# Altium footprint library MiniSquidCtrl.PcbLib: 44 footprints (part 2 of 3)
Each footprint in its own frame and in the unit in brackets; x right, y up, seen from the top. Pads: shape width x height; smd on the part's side, far side on the other; paste and mask are expansions set on the pad; w line width, h text height; cw(c..) or ccw(c..) is an arc to the next point about the centre after c.
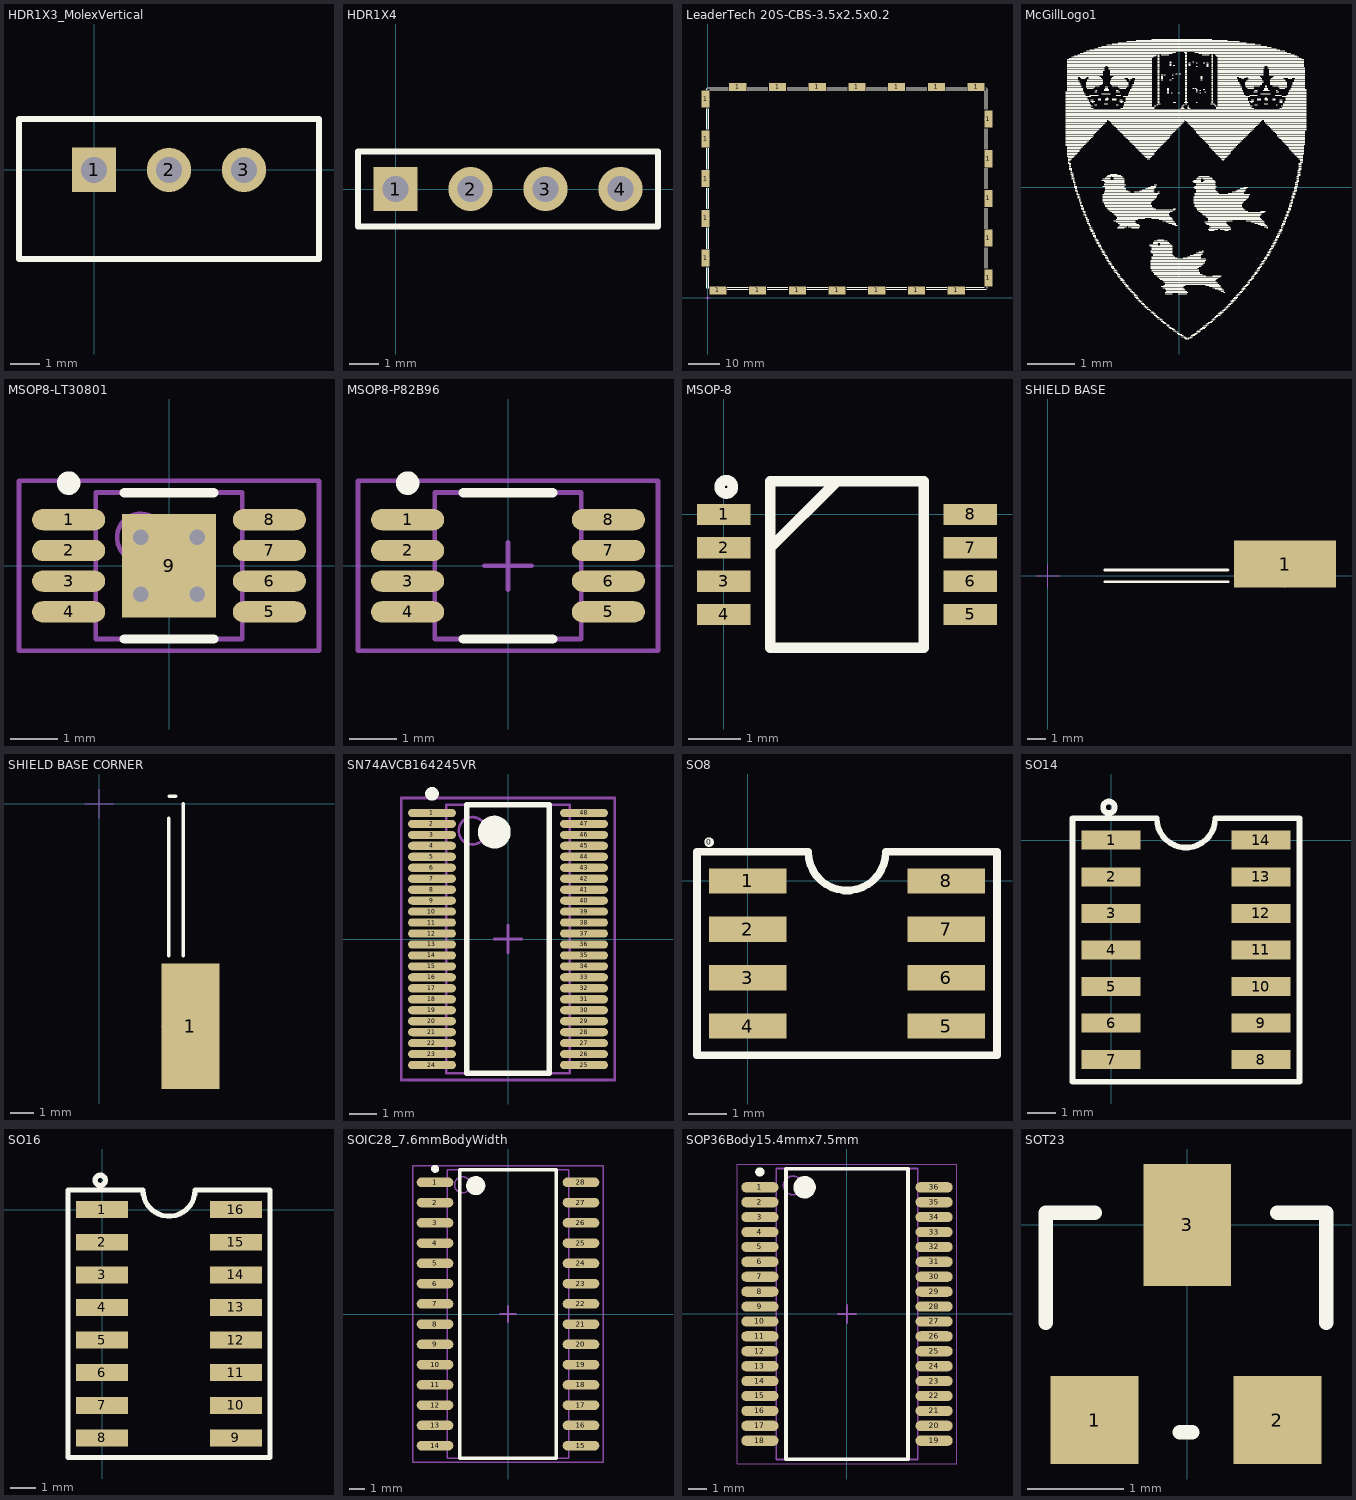
[diagram p1: the footprints below, top view; thin cyan lines are the x and y axes]

## HDR1X3_MolexVertical [mm] "WM2889"
pads (3):
  rect 1.5x1.5 hole 0.889: 1(0,0)
  round 1.5 hole 0.889: 2(2.54,0) 3(5.08,0)
Top Overlay:
  lines w0.2: -2.54,-3.023 -2.54,1.727 7.62,1.727 7.62,-3.023 -2.54,-3.023

## HDR1X4 [mm]
pads (4):
  rect 1.5x1.5 hole 0.889: 1(0,0)
  round 1.5 hole 0.889: 2(2.54,0) 3(5.08,0) 4(7.62,0)
Top Overlay:
  lines w0.2: -1.27,-1.27 8.89,-1.27 8.89,1.27 -1.27,1.27 -1.27,-1.27

## LeaderTech 20S-CBS-3.5x2.5x0.2 [mil]
pads (24):
  rect 100x215 smd: 1(-25,500) 1(-25,1000) 1(-25,1500) 1(-25,2000) 1(-25,2500) 1(3537,250) 1(3537,750) 1(3537,1250) 1(3537,1750) 1(3537,2250)
  rect 215x100 smd: 1(131,94) 1(381,2656) 1(631,94) 1(881,2656) 1(1131,94) 1(1381,2656) 1(1631,94) 1(1881,2656) 1(2131,94) 1(2381,2656) 1(2631,94) 1(2881,2656) 1(3131,94) 1(3381,2656)
Top Overlay:
  lines w6: -12.5,120 -12.5,380 ; -12.5,620 -12.5,880 ; -12.5,1120 -12.5,1380 ; -12.5,1620 -12.5,1880 ; -12.5,2120 -12.5,2380 ; -12.5,2620 -12.5,2631 ; 0,2643.5 260,2643.5 ; 12.5,120 12.5,380 ; 12.5,620 12.5,880 ; 12.5,1120 12.5,1380 ; 12.5,1620 12.5,1880 ; 12.5,2120 12.5,2380 ; 25,2618.5 260,2618.5 ; 251,106.5 511,106.5 ; 251,131.5 511,131.5 ; 501,2618.5 761,2618.5 ; 501,2643.5 761,2643.5 ; 751,106.5 1011,106.5 ; 751,131.5 1011,131.5 ; 1001,2618.5 1261,2618.5 ; 1001,2643.5 1261,2643.5 ; 1251,106.5 1511,106.5 ; 1251,131.5 1511,131.5 ; 1501,2618.5 1761,2618.5 ; 1501,2643.5 1761,2643.5 ; 1751,106.5 2011,106.5 ; 1751,131.5 2011,131.5 ; 2001,2618.5 2261,2618.5 ; 2001,2643.5 2261,2643.5 ; 2251,106.5 2511,106.5 ; 2251,131.5 2511,131.5 ; 2501,2618.5 2761,2618.5 ; 2501,2643.5 2761,2643.5 ; 2751,106.5 3011,106.5 ; 2751,131.5 3011,131.5 ; 3001,2618.5 3261,2618.5 ; 3001,2643.5 3261,2643.5 ; 3252,106.5 3512,106.5 ; 3252,131.5 3487,131.5 ; 3499.5,370 3499.5,630 ; 3499.5,870 3499.5,1130 ; 3499.5,1370 3499.5,1630 ; 3499.5,1870 3499.5,2130 ; 3499.5,2371 3499.5,2606 ; 3501,2643.5 3512,2643.5 ; 3524.5,119 3524.5,130 ; 3524.5,370 3524.5,630 ; 3524.5,870 3524.5,1130 ; 3524.5,1370 3524.5,1630 ; 3524.5,1870 3524.5,2130 ; 3524.5,2371 3524.5,2631
Mechanical 3:
  drawing of 192 lines, arcs and shapes, not listed

## McGillLogo1 [mm] "McGillLogo"
Top Overlay:
  drawing of 1109 lines, arcs and shapes, not listed

## MSOP8-LT30801 [mm] "TSOP, 8-Leads, Body 3.1x3.1mm (max), Pitch 0.65mm, IPC Medium Density"
height 1.1
pads (9):
  oval 1.55x0.45 smd: 1(-2.125,0.975) 2(-2.125,0.325) 3(-2.125,-0.325) 4(-2.125,-0.975) 5(2.125,-0.975) 6(2.125,-0.325) 7(2.125,0.325) 8(2.125,0.975)
  rect 2x2.2 smd: 9(0,0)
via 0.6,-0.6 diameter 0.66 hole 0.33
via -0.6,-0.6 diameter 0.66 hole 0.33
via 0.6,0.6 diameter 0.66 hole 0.33
via -0.6,0.6 diameter 0.66 hole 0.33
Top Overlay:
  circle w0.25: c-2.125,1.75 r0.125
  lines w0.2: -0.95,-1.55 0.95,-1.55 ; -0.95,1.55 0.95,1.55
Mechanical 13:
  circle w0.1: c-0.6,0.6 r0.5
  lines w0.1: -1.55,-1.55 1.55,-1.55 1.55,1.55 -1.55,1.55 -1.55,-1.55
Mechanical 15:
  lines w0.1: -0.5,0 0.5,0 ; 0,-0.5 0,0.5 ; -3.175,-1.8 3.175,-1.8 3.175,1.8 -3.175,1.8 -3.175,-1.8
3D body: height 1.1, standoff 0.15, extent -1.55,-1.55 1.55,1.55

## MSOP8-P82B96 [mm] "TSOP, 8-Leads, Body 3.1x3.1mm (max), Pitch 0.65mm, IPC Medium Density"
height 1.1
pads (8):
  oval 1.55x0.45 smd: 1(-2.125,0.975) 2(-2.125,0.325) 3(-2.125,-0.325) 4(-2.125,-0.975) 5(2.125,-0.975) 6(2.125,-0.325) 7(2.125,0.325) 8(2.125,0.975)
Top Overlay:
  circle w0.25: c-2.125,1.75 r0.125
  lines w0.2: -0.95,-1.55 0.95,-1.55 ; -0.95,1.55 0.95,1.55
Mechanical 13:
  lines w0.1: -1.55,-1.55 -1.55,1.55 1.55,1.55 1.55,-1.55 -1.55,-1.55
Mechanical 15:
  lines w0.1: -0.5,0 0.5,0 ; 0,-0.5 0,0.5 ; -3.175,-1.8 -3.175,1.8 3.175,1.8 3.175,-1.8 -3.175,-1.8
3D body: height 1.1, standoff 0.15, extent -1.55,-1.55 1.55,1.55

## MSOP-8 [mil]
pads (8):
  rect 40x16 smd: 1(0,0) 2(0,-25) 3(0,-50) 4(0,-75) 5(185,-75) 6(185,-50) 7(185,-25) 8(185,0)
Top Overlay:
  circle w7.87: c1.89,20.67 r5
  lines w7.87: 35,-25 85,25 ; 35,-100 35,25 150,25 150,-100 35,-100

## SHIELD BASE [mil]
pads (1):
  rect 215x100 smd: 1(500,25)
Top Overlay:
  lines w6: 120,-12.5 380,-12.5 ; 120,12.5 380,12.5
Mechanical 3:
  lines w2: -25,0 0,0 ; 0,-25 0,0 ; 0,25 0,0 ; 25,0 0,0 ; 475,0 500,0 ; 500,-25 500,0 ; 500,25 500,0 ; 525,0 500,0
3D body: height 39.37, standoff 0, extent 120,-5 395,5
3D body: height 39.37, standoff 0, extent 395,-20 605,70

## SHIELD BASE CORNER [mil]
pads (1):
  rect 100x215 smd: 1(156,-381)
Top Overlay:
  lines w6: 118.5,-260 118.5,-25 ; 120,12.5 131,12.5 ; 143.5,-260 143.5,0
Mechanical 3:
  lines w2: -25,0 0,0 ; 0,-25 0,0 ; 0,25 0,0 ; 25,0 0,0 ; 106,-381 131,-381 ; 131,-406 131,-381 ; 131,-356 131,-381 ; 156,-381 131,-381
3D body: height 39.37, standoff 0, extent 125,-275 135,0
3D body: height 39.37, standoff 0, extent 110,-485 205,-275

## SN74AVCB164245VR [mm] "TSSOP, 48-Leads, Body 9.8x4.5mm (max), Pitch 0.40mm, IPC Medium Density"
height 1.2
pads (48):
  oval 1.75x0.3 smd: 1(-2.775,4.6) 2(-2.775,4.2) 3(-2.775,3.8) 4(-2.775,3.4) 5(-2.775,3) 6(-2.775,2.6) 7(-2.775,2.2) 8(-2.775,1.8) 9(-2.775,1.4) 10(-2.775,1) 11(-2.775,0.6) 12(-2.775,0.2) 13(-2.775,-0.2) 14(-2.775,-0.6) 15(-2.775,-1) 16(-2.775,-1.4) 17(-2.775,-1.8) 18(-2.775,-2.2) 19(-2.775,-2.6) 20(-2.775,-3) 21(-2.775,-3.4) 22(-2.775,-3.8) 23(-2.775,-4.2) 24(-2.775,-4.6) 25(2.775,-4.6) 26(2.775,-4.2) 27(2.775,-3.8) 28(2.775,-3.4) 29(2.775,-3) 30(2.775,-2.6) 31(2.775,-2.2) 32(2.775,-1.8) 33(2.775,-1.4) 34(2.775,-1) 35(2.775,-0.6) 36(2.775,-0.2) 37(2.775,0.2) 38(2.775,0.6) 39(2.775,1) 40(2.775,1.4) 41(2.775,1.8) 42(2.775,2.2) 43(2.775,2.6) 44(2.775,3) 45(2.775,3.4) 46(2.775,3.8) 47(2.775,4.2) 48(2.775,4.6)
Top Overlay:
  circle w0.25: c-2.775,5.3 r0.125
  circle w0.6: c-0.5,3.9 r0.3
  lines w0.2: -1.5,-4.9 -1.5,4.9 1.5,4.9 1.5,-4.9 -1.5,-4.9
Mechanical 13:
  circle w0.1: c-1.3,3.95 r0.5
  lines w0.1: -2.25,-4.9 -2.25,4.9 2.25,4.9 2.25,-4.9 -2.25,-4.9
Mechanical 15:
  lines w0.1: -0.5,0 0.5,0 ; 0,-0.5 0,0.5 ; -3.9,-5.15 -3.9,5.15 3.9,5.15 3.9,-5.15 -3.9,-5.15
3D body: height 1.2, standoff 0.15, extent -2.25,-4.9 2.25,4.9

## SO8 [mil]
height 43.31
pads (9):
  round 10 on Top Overlay: 0(-40,40)
  rect 80x26 smd: 1(0,0) 2(0,-50) 3(0,-100) 4(0,-150) 5(205,-150) 6(205,-100) 7(205,-50) 8(205,0)
Top Overlay:
  lines w7.87: -52.5,-180 257.5,-180 257.5,30 142.5,30 cw(c102.5,30) 62.5,30 -52.5,30 -52.5,-180
3D body: height 39.37, standoff 0, extent -40,-165 245,15

## SO14 [mil]
height 43.31
pads (14):
  rect 80x26 smd: 1(0,0) 2(0,-50) 3(0,-100) 4(0,-150) 5(0,-200) 6(0,-250) 7(0,-300) 8(205,-300) 9(205,-250) 10(205,-200) 11(205,-150) 12(205,-100) 13(205,-50) 14(205,0)
Top Overlay:
  circle w7.87: c-2.87,45 r7.87
  lines w7.87: -52.5,-330 -52.5,30 62.5,30 ccw(c102.5,30) 142.5,30 257.5,30 257.5,-330 -52.5,-330

## SO16 [mil]
height 43.31
pads (16):
  rect 80x26 smd: 1(0,0) 2(0,-50) 3(0,-100) 4(0,-150) 5(0,-200) 6(0,-250) 7(0,-300) 8(0,-350) 9(205,-350) 10(205,-300) 11(205,-250) 12(205,-200) 13(205,-150) 14(205,-100) 15(205,-50) 16(205,0)
Top Overlay:
  circle w7.87: c-2.87,45 r7.87
  lines w7.87: -52.5,-380 257.5,-380 257.5,30 142.5,30 cw(c102.5,30) 62.5,30 -52.5,30 -52.5,-380

## SOIC28_7.6mmBodyWidth [mm] "SOIC, 28-Leads, Body 18.1x7.6mm (max), Pitch 1.27mm, IPC Medium Density"
height 2.65
pads (28):
  oval 2.3x0.6 smd: 1(-4.575,8.255) 2(-4.575,6.985) 3(-4.575,5.715) 4(-4.575,4.445) 5(-4.575,3.175) 6(-4.575,1.905) 7(-4.575,0.635) 8(-4.575,-0.635) 9(-4.575,-1.905) 10(-4.575,-3.175) 11(-4.575,-4.445) 12(-4.575,-5.715) 13(-4.575,-6.985) 14(-4.575,-8.255) 15(4.575,-8.255) 16(4.575,-6.985) 17(4.575,-5.715) 18(4.575,-4.445) 19(4.575,-3.175) 20(4.575,-1.905) 21(4.575,-0.635) 22(4.575,0.635) 23(4.575,1.905) 24(4.575,3.175) 25(4.575,4.445) 26(4.575,5.715) 27(4.575,6.985) 28(4.575,8.255)
Top Overlay:
  circle w0.6: c-2.025,8.05 r0.3
  circle w0.25: c-4.575,9.105 r0.125
  lines w0.2: -3.025,-9.05 3.025,-9.05 3.025,9.05 -3.025,9.05 -3.025,-9.05
Mechanical 13:
  circle w0.1: c-2.85,8.1 r0.5
  lines w0.1: -3.8,-9.05 3.8,-9.05 3.8,9.05 -3.8,9.05 -3.8,-9.05
Mechanical 15:
  lines w0.1: -0.5,0 0.5,0 ; 0,-0.5 0,0.5 ; -5.975,-9.3 5.975,-9.3 5.975,9.3 -5.975,9.3 -5.975,-9.3
3D body: height 2.65, standoff 0.23, extent -3.8,-9.05 3.8,9.05

## SOP36Body15.4mmx7.5mm [mm] "SOP, 36-Leads, Body 15.38x7.50mm, Pitch 0.80mm, IPC Medium Density"
height 2.65
pads (36):
  oval 2x0.55 smd: 1(-4.675,6.8) 2(-4.675,6) 3(-4.675,5.2) 4(-4.675,4.4) 5(-4.675,3.6) 6(-4.675,2.8) 7(-4.675,2) 8(-4.675,1.2) 9(-4.675,0.4) 10(-4.675,-0.4) 11(-4.675,-1.2) 12(-4.675,-2) 13(-4.675,-2.8) 14(-4.675,-3.6) 15(-4.675,-4.4) 16(-4.675,-5.2) 17(-4.675,-6) 18(-4.675,-6.8) 19(4.675,-6.8) 20(4.675,-6) 21(4.675,-5.2) 22(4.675,-4.4) 23(4.675,-3.6) 24(4.675,-2.8) 25(4.675,-2) 26(4.675,-1.2) 27(4.675,-0.4) 28(4.675,0.4) 29(4.675,1.2) 30(4.675,2) 31(4.675,2.8) 32(4.675,3.6) 33(4.675,4.4) 34(4.675,5.2) 35(4.675,6) 36(4.675,6.8)
Top Overlay:
  circle w0.6: c-2.275,6.8 r0.3
  circle w0.25: c-4.675,7.625 r0.125
  lines w0.2: -3.275,-7.8 3.275,-7.8 3.275,7.8 -3.275,7.8 -3.275,-7.8
Mechanical 13:
  circle w0.1: c-2.9,6.9 r0.5
  lines w0.1: -3.8,-7.8 3.8,-7.8 3.8,7.8 -3.8,7.8 -3.8,-7.8
Mechanical 15:
  lines w0.05: -5.9,-8.05 5.9,-8.05 5.9,8.05 -5.9,8.05 -5.9,-8.05
  lines w0.1: -0.5,0 0.5,0 ; 0,-0.5 0,0.5
3D body: height 2.65, standoff 0.1, extent -3.8,-7.8 3.8,7.8

## SOT23 [mil]
pads (3):
  rect 36x36 smd: 1(-38,-80) 2(37,-80)
  rect 36x50 smd: 3(0,0)
Top Overlay:
  lines w6: -58,-40 -58,5 -38,5 ; -3,-85 2,-85 ; 37,5 57,5 57,-40